# EAGLE library part SFW15R-1STE1LF (library cam_connector)
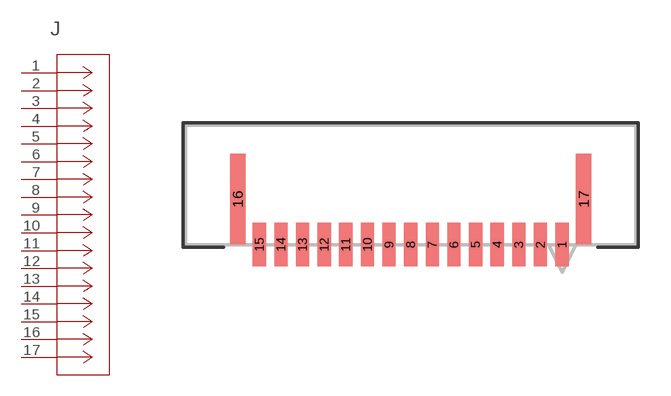
[diagram p0: symbol with the pads of CON15_1X15_DRB_SFW; footprint CON15_1X15_DRB_SFW]

Designator prefix J

## SFW15R-1STE1LF (MANUFACTURER_PART_NUMBER: SFW15R1STE1LF; VENDOR: FCI)  [CON15_1X15_DRB_SFW]
1  11  pas
2  22  pas
3  33  pas
4  44  pas
5  55  pas
6  66  pas
7  77  pas
8  88  pas
9  99  pas
10  1010  pas
11  1111  pas
12  1212  pas
13  1313  pas
14  1414  pas
15  1515  pas
16  1616  pas
17  1717  pas

## Footprint CON15_1X15_DRB_SFW (pad centres in mm)
smd 0.61 x 2.007: 1 7,2.756; 2 6,2.756; 3 5,2.756; 4 4,2.756; 5 3,2.756; 6 2,2.756; 7 1,2.756; 8 0,2.756; 9 -1,2.756; 10 -2,2.756; 11 -3,2.756; 12 -4,2.756; 13 -5,2.756; 14 -6,2.756; 15 -7,2.756
smd 0.711 x 4.191: 16 -8.001,4.864; 17 8.001,4.864